# EAGLE library part WE-FB_EP13_SCH2 (library WE-FB)
WE-FB Flyback Transformer suitable for LT3573/ LT3574/ LT3575/ LT3748 Characteristics Easy design-in solution Less external components needed Small board space Low cost No optocoupler needed! Long term reliability voltage control No aging Same external parts for different output voltages Easy design of custom power supply due to standard circuit and change of transformers and two components for feedback loop Isolation voltage up to 2.5 kV Applications Isolated power design Sensor interfaces Isolated telecom converters Power over Ethernet <https://www.we-online.com/catalog/media/o35283v209%20Family_we-fb_LT%20Kits_gruppe.jpg> Details see: www.we-online.com/catalog/WE-FB <www.we-online.com/catalog/WE-FB/?utm_source=eagle_model&utm_medium=description_link&utm_campaign=eisos_eagle> Updated by Ella Wu 2022-07-21 2022 Wurth Elektronik
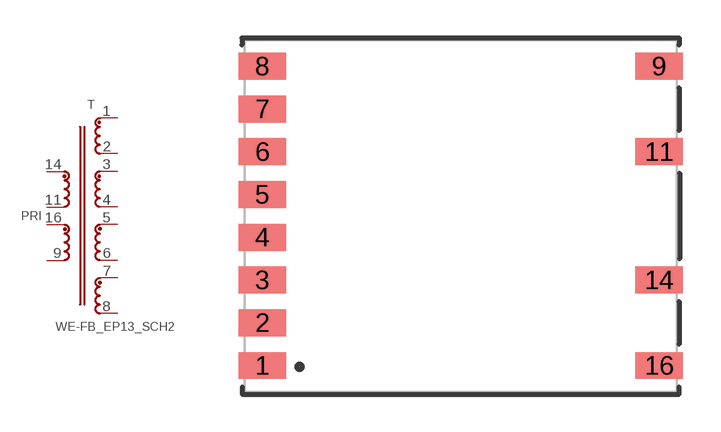
[diagram p4: symbol with the pads of WE-FB_EP13_P15.77; footprint WE-FB_EP13_P15.77]

Designator prefix T

## WE-FB_EP13_SCH2_750311856 (DATASHEET-URL: https://www.we-online.com/redexpert/spec/750311856?ae; IOUT: 0.15A/0.15A/0.15A/0.15A; ISAT: 12A; L: 3.8uH; LSMIN: 0.25uH; MOUNT: SMT; N: 1:4:4:4:4; PART-NUMBER: 750311856; VALUE: 750311856; VIN: 16-24V(DC); VOUT: 15V/15V/15V/15V; VT: 1500V(AC))  [WE-FB_EP13_P15.77]
1  12  pas
2  11  pas
3  10  pas
4  9  pas
5  8  pas
6  7  pas
7  6  pas
8  5  pas
9  4  pas
11  2  pas
14  1  pas
16  3  pas

## Footprint WE-FB_EP13_P15.77 (pad centres in mm)
WE-FB Flyback Transformer suitable for LT3573/ LT3574/ LT3575/ LT3748 Size: EP13 SMD12Pin ,Pitch of PAD =15.77
smd 1.88 x 1.07: 1 -7.885,-5.95; 2 -7.885,-4.25; 3 -7.885,-2.55; 4 -7.885,-0.85; 5 -7.885,0.85; 6 -7.885,2.55; 7 -7.885,4.25; 8 -7.885,5.95; 9 7.885,5.95; 11 7.885,2.55; 14 7.885,-2.55; 16 7.885,-5.95